# Altium schematic symbol library MC33493_UHF_TX.SCHLIB: 1 symbol
Pins are listed as number, name and electrical type; pins without a type are passive.

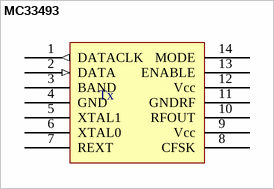
[diagram p0: symbol MC33493]

## MC33493
designator Tx
Motorola/Freescale single chip UHF Tx
footprint PCBComponent_1
pins: 1 DATACLK (out), 2 DATA (in), 3 BAND, 4 GND, 5 XTAL1, 6 XTAL0, 7 REXT, 8 CFSK, 9 Vcc, 10 RFOUT, 11 GNDRF (power), 12 Vcc, 13 ENABLE, 14 MODE